# EAGLE library part 1777600_PHOENIX (library WFR2020)
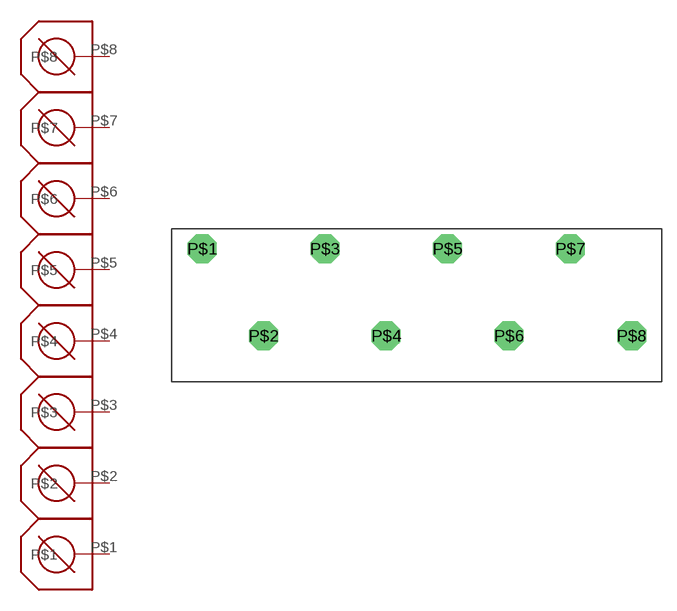
[diagram p7: symbol with the pads of 1777600_FOOT; footprint 1777600_FOOT]

Designator prefix -

## 1777600_PHOENIX  [1777600_FOOT]
P$1  P$1
P$2  P$2
P$3  P$3
P$4  P$4
P$5  P$5
P$6  P$6
P$7  P$7
P$8  P$8

## Footprint 1777600_FOOT (pad centres in mm)
drill 1.3 pad 3 octagon: P$1 0,0; P$2 6.35,-9; P$3 12.7,0; P$4 19.05,-9; P$5 25.4,0; P$6 31.75,-9; P$7 38.1,0; P$8 44.45,-9